# EAGLE library part 9S12C32 (library GameCube)
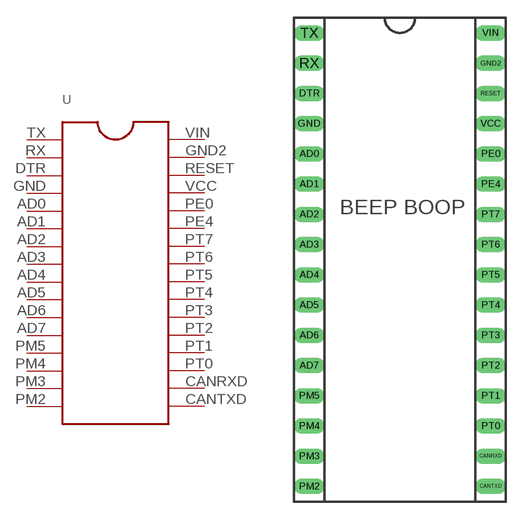
[diagram p1: symbol with the pads of 9S12-32PIN-DIP; footprint 9S12-32PIN-DIP]

Designator prefix -

## 9S12C32  [9S12-32PIN-DIP]
AD0  P$5
AD1  P$6
AD2  P$7
AD3  P$8
AD4  P$9
AD5  P$10
AD6  P$11
AD7  P$12
CANRXD  P$18
CANTXD  P$17
DTR  P$3
GND  P$4
GND2  P$31
PE0  P$28
PE4  P$27
PM2  P$16
PM3  P$15
PM4  P$14
PM5  P$13
PT0  P$19
PT1  P$20
PT2  P$21
PT3  P$22
PT4  P$23
PT5  P$24
PT6  P$25
PT7  P$26
RESET  P$30
RX  P$2
TX  P$1
VCC  P$29
VIN  P$32

## Footprint 9S12-32PIN-DIP (pad centres in mm)
drill 0.8 long: AD0 -7.62,1.27; AD1 -7.62,-1.27; AD2 -7.62,-3.81; AD3 -7.62,-6.35; AD4 -7.62,-8.89; AD5 -7.62,-11.43; AD6 -7.62,-13.97; AD7 -7.62,-16.51; CANRXD 7.62,-24.13; CANTXD 7.62,-26.67; DTR -7.62,6.35; GND -7.62,3.81; GND2 7.62,8.89; PE0 7.62,1.27; PE4 7.62,-1.27; PM2 -7.62,-26.67; PM3 -7.62,-24.13; PM4 -7.62,-21.59; PM5 -7.62,-19.05; PT0 7.62,-21.59; PT1 7.62,-19.05; PT2 7.62,-16.51; PT3 7.62,-13.97; PT4 7.62,-11.43; PT5 7.62,-8.89; PT6 7.62,-6.35; PT7 7.62,-3.81; RESET 7.62,6.35; RX -7.62,8.89; TX -7.62,11.43; VCC 7.62,3.81; VIN 7.62,11.43